# Altium schematic symbol library Разъемы импортные.SchLib: 38 symbols
Pins are listed as number, name and electrical type; pins without a type are passive.

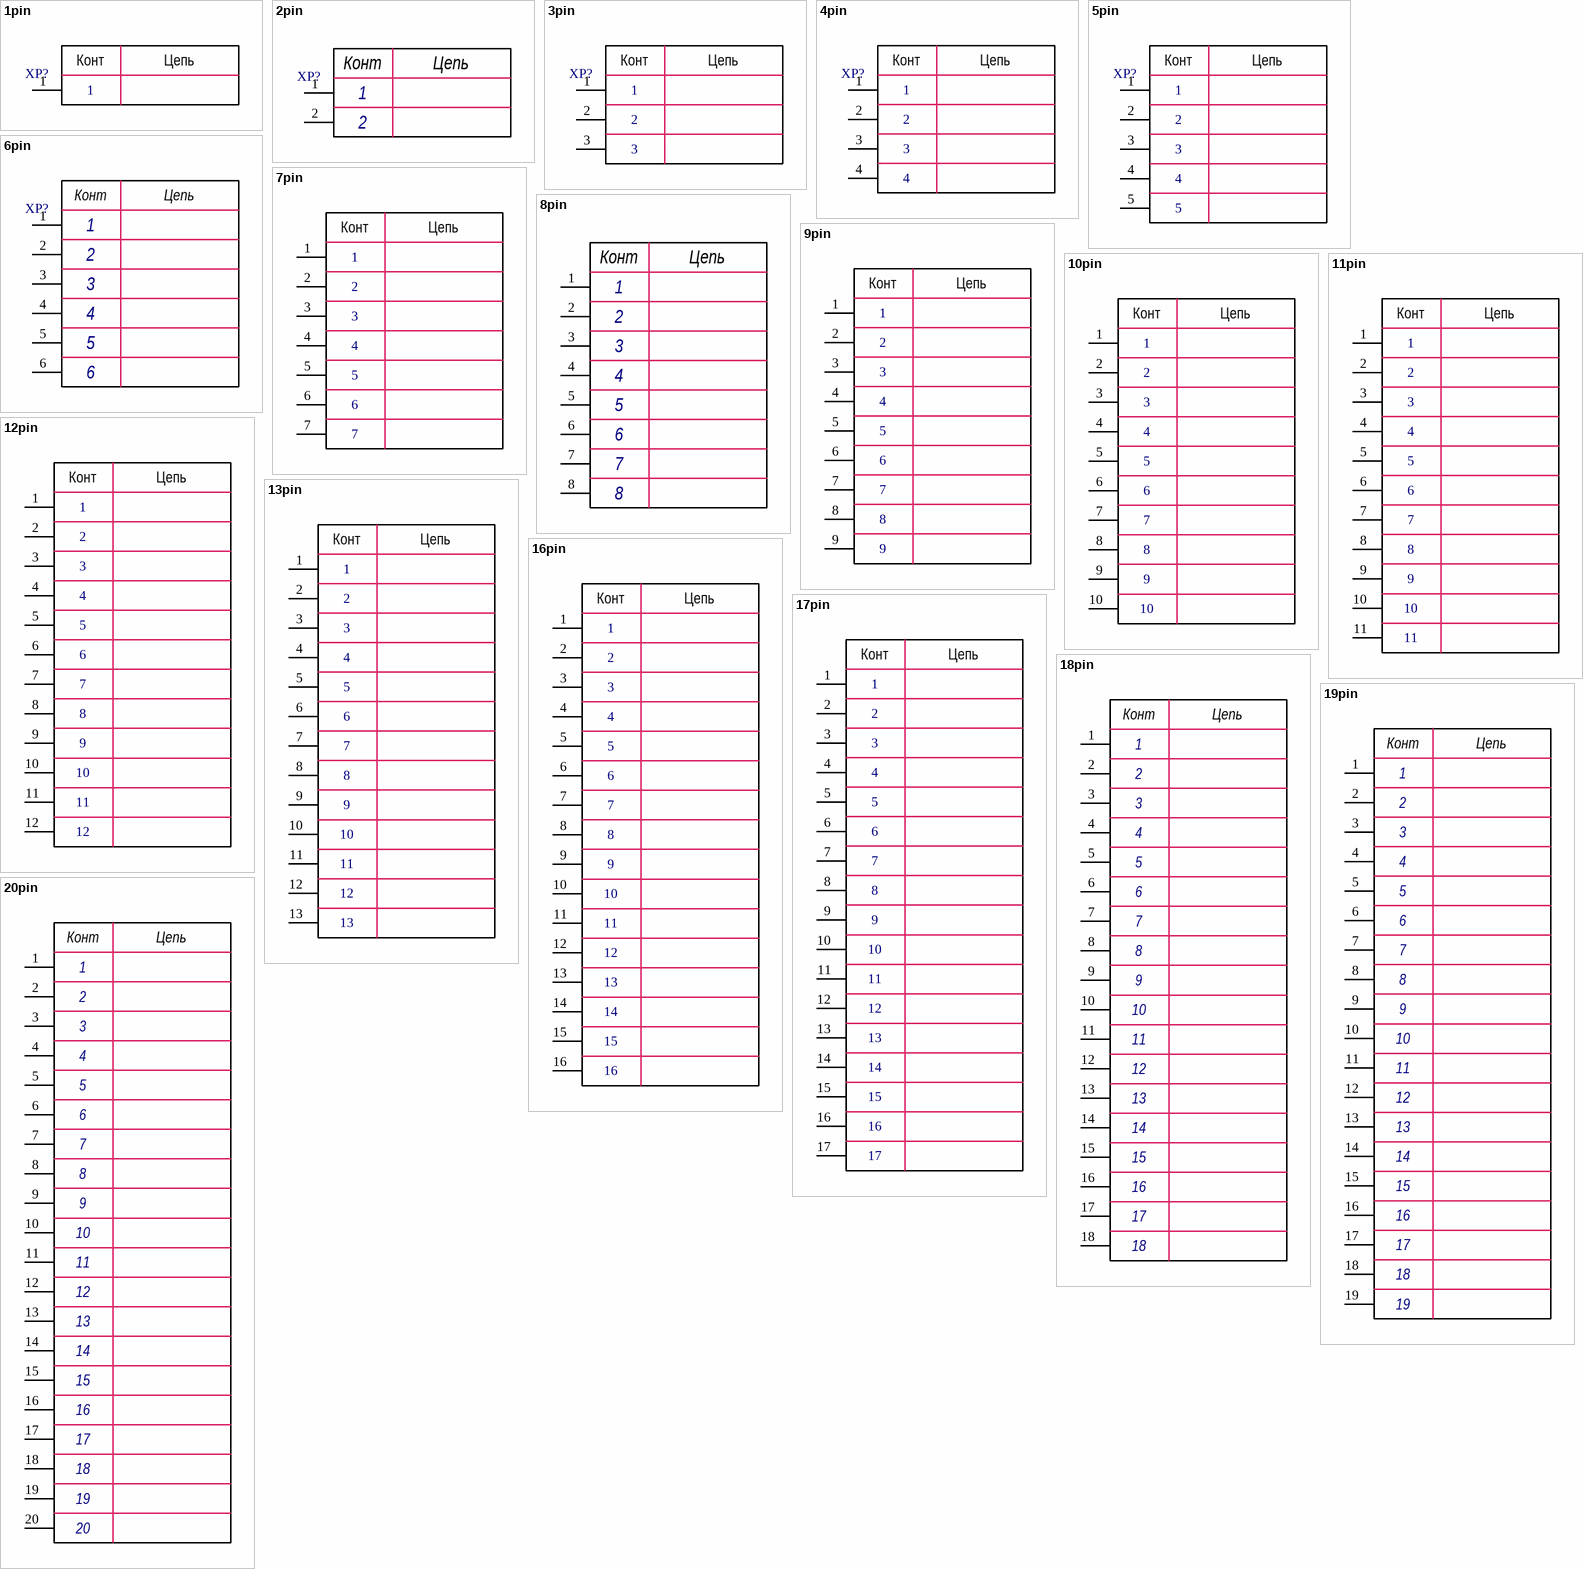
[diagram p0: symbols 1pin to 20pin]

## 1pin
designator XP?  (value not drawn)
Rem: *; Value: *; Tolerance: *; Power/Voltage: *; TKE: *; ManufacturerPartNumber: *; Manufacturer: *; Quantity: *; Примечание: *
pins: 1
text: Конт; Цепь

## 2pin
designator XP?  (value not drawn)
Rem: *; Value: *; Tolerance: *; Power/Voltage: *; TKE: *; ManufacturerPartNumber: *; Manufacturer: *; Quantity: *; Примечание: *
pins: 1, 2
text: Конт; Цепь

## 3pin
designator XP?  (value not drawn)
Rem: *; Value: *; Tolerance: *; Power/Voltage: *; TKE: *; ManufacturerPartNumber: *; Manufacturer: *; Quantity: *; Примечание: *
pins: 1, 2, 3
text: Конт; Цепь

## 4pin
designator XP?  (value not drawn)
Rem: *; Value: *; Tolerance: *; Power/Voltage: *; TKE: *; ManufacturerPartNumber: *; Manufacturer: *; Quantity: *; Примечание: *
pins: 1, 2, 3, 4
text: Конт; Цепь

## 5pin
designator XP?  (value not drawn)
Rem: *; Value: *; Tolerance: *; Power/Voltage: *; TKE: *; ManufacturerPartNumber: *; Manufacturer: *; Quantity: *; Примечание: *
pins: 1, 2, 3, 4, 5
text: Конт; Цепь

## 6pin
designator XP?  (value not drawn)
Rem: *; Value: *; Tolerance: *; Power/Voltage: *; TKE: *; ManufacturerPartNumber: *; Manufacturer: *; Quantity: *; Примечание: *
pins: 1, 2, 3, 4, 5, 6
text: Конт; Цепь

## 7pin
designator XP?  (value not drawn)
Rem: *; Value: *; Tolerance: *; Power/Voltage: *; TKE: *; ManufacturerPartNumber: *; Manufacturer: *; Quantity: *; Примечание: *
pins: 1, 2, 3, 4, 5, 6, 7
text: Конт; Цепь

## 8pin
designator XP?  (value not drawn)
Rem: *; Value: *; Tolerance: *; Power/Voltage: *; TKE: *; ManufacturerPartNumber: *; Manufacturer: *; Quantity: *; Примечание: *
pins: 1, 2, 3, 4, 5, 6, 7, 8
text: Конт; Цепь

## 9pin
designator XP?  (value not drawn)
Rem: *; Value: *; Tolerance: *; Power/Voltage: *; TKE: *; ManufacturerPartNumber: *; Manufacturer: *; Quantity: *; Примечание: *
pins: 1, 2, 3, 4, 5, 6, 7, 8, 9
text: Конт; Цепь

## 10pin
designator XP?  (value not drawn)
Rem: *; Value: *; Tolerance: *; Power/Voltage: *; TKE: *; ManufacturerPartNumber: *; Manufacturer: *; Quantity: *; Примечание: *
pins: 1, 2, 3, 4, 5, 6, 7, 8, 9, 10
text: Конт; Цепь

## 11pin
designator XP?  (value not drawn)
Rem: *; Value: *; Tolerance: *; Power/Voltage: *; TKE: *; ManufacturerPartNumber: *; Manufacturer: *; Quantity: *; Примечание: *
pins: 1, 2, 3, 4, 5, 6, 7, 8, 9, 10, 11
text: Конт; Цепь

## 12pin
designator XP?  (value not drawn)
Rem: *; Value: *; Tolerance: *; Power/Voltage: *; TKE: *; ManufacturerPartNumber: *; Manufacturer: *; Quantity: *; Примечание: *
pins: 1, 2, 3, 4, 5, 6, 7, 8, 9, 10, 11, 12
text: Конт; Цепь

## 13pin
designator XP?  (value not drawn)
Rem: *; Value: *; Tolerance: *; Power/Voltage: *; TKE: *; ManufacturerPartNumber: *; Manufacturer: *; Quantity: *; Примечание: *
pins: 1, 2, 3, 4, 5, 6, 7, 8, 9, 10, 11, 12, 13
text: Конт; Цепь

## 16pin
designator XP?  (value not drawn)
Rem: *; Value: *; Tolerance: *; Power/Voltage: *; TKE: *; ManufacturerPartNumber: *; Manufacturer: *; Quantity: *; Примечание: *
pins: 1, 2, 3, 4, 5, 6, 7, 8, 9, 10, 11, 12, 13, 14, 15, 16
text: Конт; Цепь

## 17pin
designator XP?  (value not drawn)
Rem: *; Value: *; Tolerance: *; Power/Voltage: *; TKE: *; ManufacturerPartNumber: *; Manufacturer: *; Quantity: *; Примечание: *
pins: 1, 2, 3, 4, 5, 6, 7, 8, 9, 10, 11, 12, 13, 14, 15, 16, 17
text: Конт; Цепь

## 18pin
designator XP?  (value not drawn)
Rem: *; Value: *; Tolerance: *; Power/Voltage: *; TKE: *; ManufacturerPartNumber: *; Manufacturer: *; Quantity: *; Примечание: *
pins: 1, 2, 3, 4, 5, 6, 7, 8, 9, 10, 11, 12, 13, 14, 15, 16, 17, 18
text: Конт; Цепь

## 19pin
designator XP?  (value not drawn)
Rem: *; Value: *; Tolerance: *; Power/Voltage: *; TKE: *; ManufacturerPartNumber: *; Manufacturer: *; Quantity: *; Примечание: *
pins: 1, 2, 3, 4, 5, 6, 7, 8, 9, 10, 11, 12, 13, 14, 15, 16, 17, 18, 19
text: Конт; Цепь

## 20pin
designator XP?  (value not drawn)
Rem: *; Value: *; Tolerance: *; Power/Voltage: *; TKE: *; ManufacturerPartNumber: *; Manufacturer: *; Quantity: *; Примечание: *
pins: 1, 2, 3, 4, 5, 6, 7, 8, 9, 10, 11, 12, 13, 14, 15, 16, 17, 18, 19, 20
text: Конт; Цепь

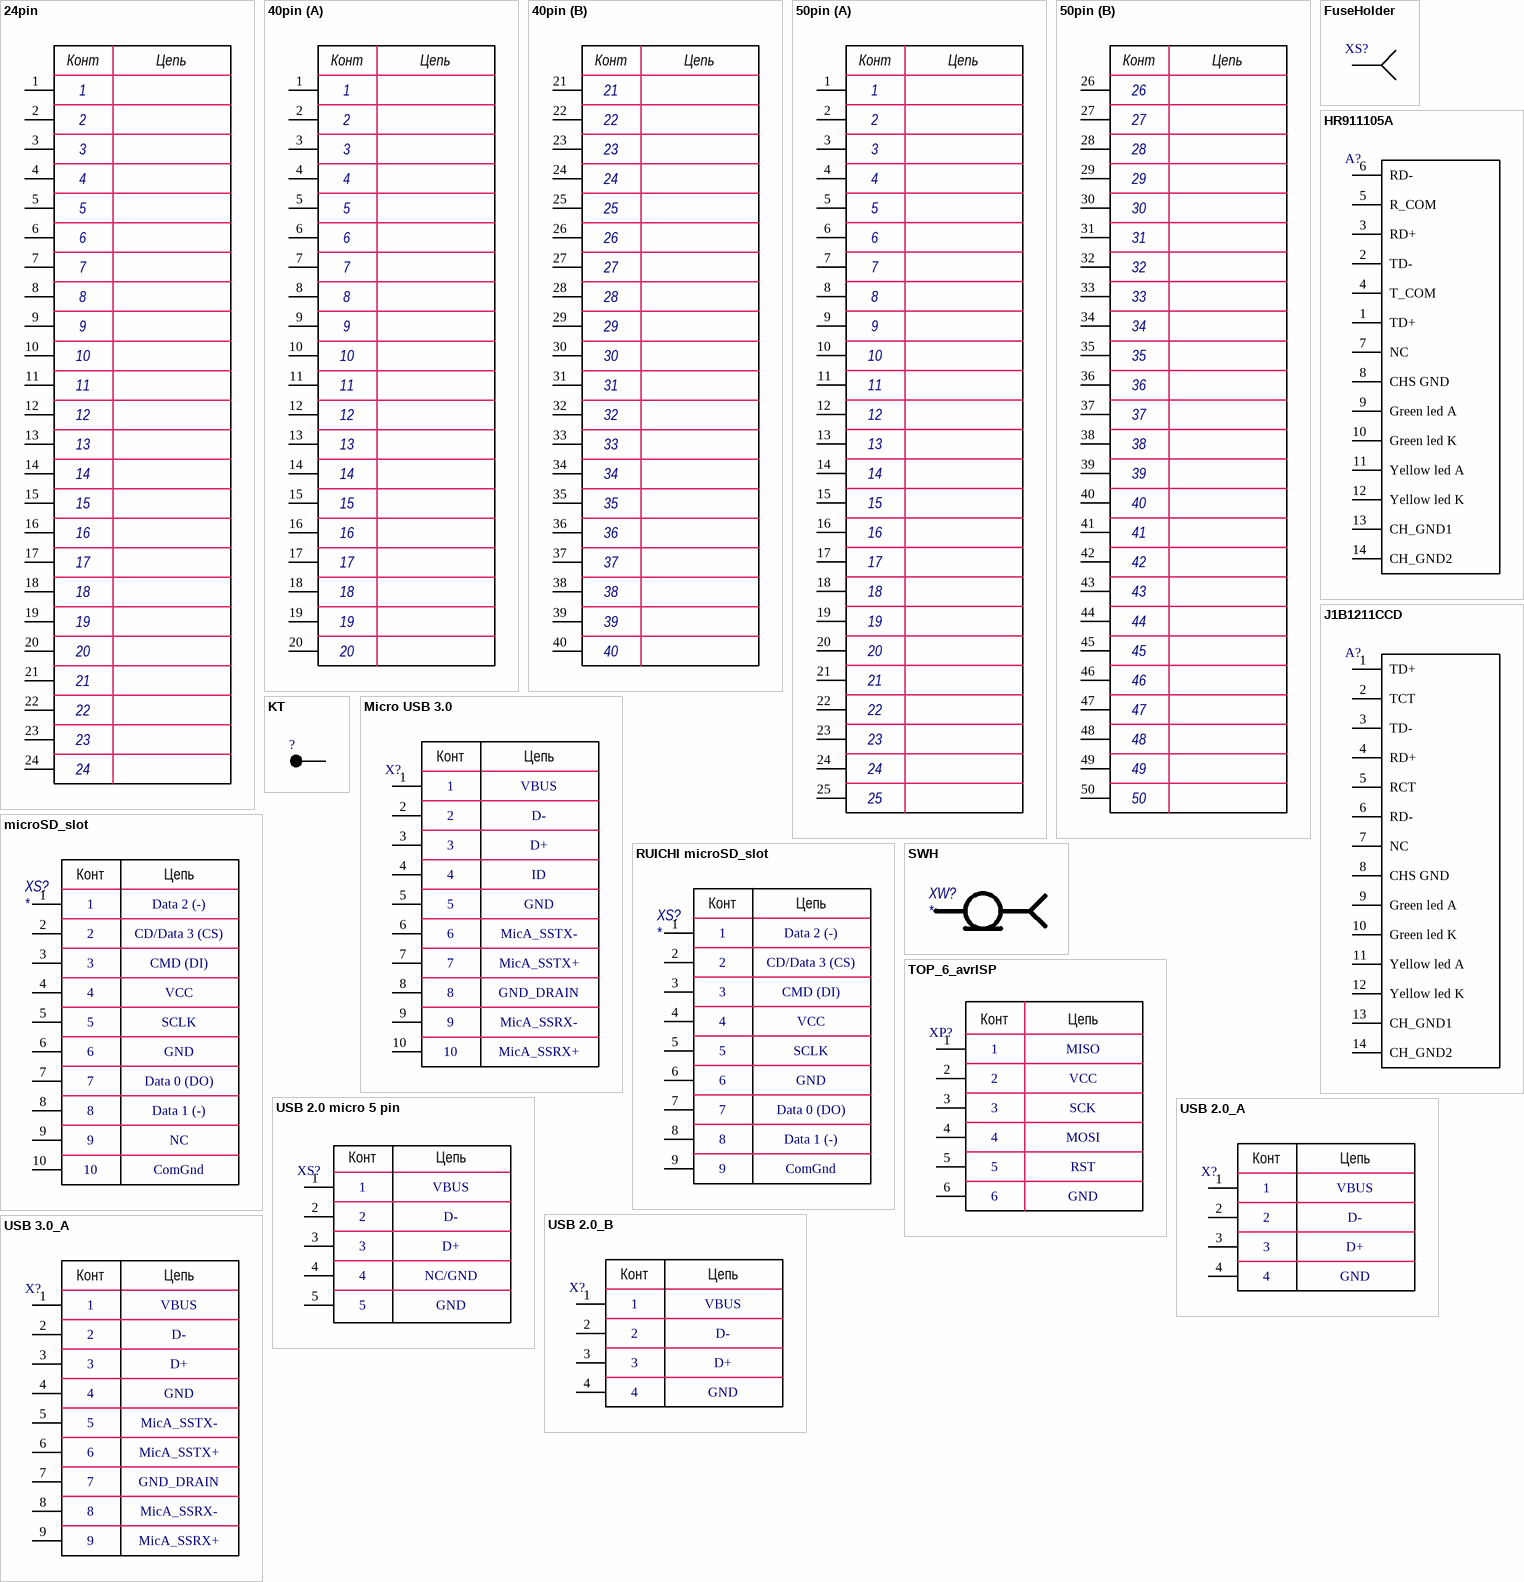
[diagram p1: symbols 24pin to USB 3.0_A]

## 24pin
designator XP?  (value not drawn)
Rem: *; Value: *; Tolerance: *; Power/Voltage: *; TKE: *; ManufacturerPartNumber: *; Manufacturer: *; Quantity: *; Примечание: *
pins: 1, 2, 3, 4, 5, 6, 7, 8, 9, 10, 11, 12, 13, 14, 15, 16, 17, 18, 19, 20, 21, 22, 23, 24
text: Конт; Цепь

## 40pin
designator XP?  (value not drawn)
Rem: *; Value: *; Tolerance: *; Power/Voltage: *; TKE: *; ManufacturerPartNumber: *; Manufacturer: *; Quantity: *; Примечание: *
part A pins: 1, 2, 3, 4, 5, 6, 7, 8, 9, 10, 11, 12, 13, 14, 15, 16, 17, 18, 19, 20
part B pins: 21, 22, 23, 24, 25, 26, 27, 28, 29, 30, 31, 32, 33, 34, 35, 36, 37, 38, 39, 40
part A text: Конт; Цепь
part B text: Конт; Цепь

## 50pin
designator XP?  (value not drawn)
Rem: *; Value: *; Tolerance: *; Power/Voltage: *; TKE: *; ManufacturerPartNumber: *; Manufacturer: *; Quantity: *; Примечание: *
part A pins: 1, 2, 3, 4, 5, 6, 7, 8, 9, 10, 11, 12, 13, 14, 15, 16, 17, 18, 19, 20, 21, 22, 23, 24, 25
part B pins: 26, 27, 28, 29, 30, 31, 32, 33, 34, 35, 36, 37, 38, 39, 40, 41, 42, 43, 44, 45, 46, 47, 48, 49, 50
part A text: Конт; Цепь
part B text: Конт; Цепь

## FuseHolder
designator XS?  (value not drawn)
Rem: *; Value: *; Tolerance: *; Power/Voltage: *; TKE: *; ManufacturerPartNumber: *; Manufacturer: *; Quantity: *; Примечание: *
pins: 1

## HR911105A
designator A?, comment ***  (value not drawn)
Rem: *; Package: *; Value: *; Tolerance: *; Power/Voltage: *; TKE: *; ManufacturerPartNumber: *; Manufacturer: *; Quantity: *; Примечание: *
pins: 1 TD+, 2 TD-, 3 RD+, 4 T_COM, 5 R_COM, 6 RD-, 7 NC, 8 CHS GND, 9 Green led A, 10 Green led K, 11 Yellow led A, 12 Yellow led K, 13 CH_GND1, 14 CH_GND2

## J1B1211CCD
designator A?, comment ***  (value not drawn)
Rem: *; Package: *; Value: *; Tolerance: *; Power/Voltage: *; TKE: *; ManufacturerPartNumber: *; Manufacturer: *; Quantity: *; Примечание: *
pins: 1 TD+, 2 TCT, 3 TD-, 4 RD+, 5 RCT, 6 RD-, 7 NC, 8 CHS GND, 9 Green led A, 10 Green led K, 11 Yellow led A, 12 Yellow led K, 13 CH_GND1, 14 CH_GND2

## KT
designator ?  (value not drawn)
pins: 1 "KT"

## Micro USB 3.0
designator X?, comment ***  (value not drawn)
Rem: *; Package: *; Value: *; Tolerance: *; Power/Voltage: *; TKE: *; ManufacturerPartNumber: *; Manufacturer: *; Quantity: *; Примечание: *; URL: *; ComponentType: *; VendorCode: *
pins: 1 VBUS, 2 D-, 3 D+, 4 ID, 5 GND, 6 MicA_SSTX-, 7 MicA_SSTX+, 8 GND_DRAIN, 9 MicA_SSRX-, 10 MicA_SSRX+
text: Конт; Цепь

## microSD_slot
designator XS?
pins: 1 VBUS, 2 D-, 3 D+, 4 ID, 5 GND, 6 MicA_SSTX-, 7 MicA_SSTX+, 8 GND_DRAIN, 9 MicA_SSRX-, 10 MicA_SSRX+
text: Конт; Цепь; Data 2 (-); CD/Data 3 (CS); CMD (DI); VCC; SCLK; Data 0 (DO); Data 1 (-); NC; ComGnd

## RUICHI microSD_slot
designator XS?
pins: 1 VBUS, 2 D-, 3 D+, 4 ID, 5 GND, 6 MicA_SSTX-, 7 MicA_SSTX+, 8 GND_DRAIN, 9 MicA_SSRX-
text: Конт; Цепь; Data 2 (-); CD/Data 3 (CS); CMD (DI); VCC; SCLK; Data 0 (DO); Data 1 (-); ComGnd

## SWH
designator XW?
pins: 1, 2

## TOP_6_avrISP
designator XP?  (value not drawn)
pins: 1, 2, 3, 4, 5, 6
text: Конт; Цепь; MISO; VCC; SCK; MOSI; RST; GND

## USB 2.0 micro 5 pin
designator XS?, comment ***  (value not drawn)
Rem: *; Package: *; Value: *; Tolerance: *; Power/Voltage: *; TKE: *; ManufacturerPartNumber: *; Manufacturer: *; Quantity: *; Примечание: *; URL: *; ComponentType: *; VendorCode: *
pins: 1 VBUS, 2 D-, 3 D+, 4 ID, 5 GND
text: Конт; Цепь; NC/GND

## USB 2.0_A
designator X?, comment ***  (value not drawn)
Rem: *; Package: *; Value: *; Tolerance: *; Power/Voltage: *; TKE: *; ManufacturerPartNumber: *; Manufacturer: *; Quantity: *; Примечание: *; URL: *; ComponentType: *; VendorCode: *
pins: 1 VBUS, 2 D-, 3 D+, 4 ID
text: Конт; Цепь; GND

## USB 2.0_B
designator X?, comment ***  (value not drawn)
Rem: *; Package: *; Value: *; Tolerance: *; Power/Voltage: *; TKE: *; ManufacturerPartNumber: *; Manufacturer: *; Quantity: *; Примечание: *; URL: *; ComponentType: *; VendorCode: *
pins: 1 VBUS, 2 D-, 3 D+, 4 ID
text: Конт; Цепь; GND

## USB 3.0_A
designator X?, comment ***  (value not drawn)
Rem: *; Package: *; Value: *; Tolerance: *; Power/Voltage: *; TKE: *; ManufacturerPartNumber: *; Manufacturer: *; Quantity: *; Примечание: *; URL: *; ComponentType: *; VendorCode: *
pins: 1 VBUS, 2 D-, 3 D+, 4 ID, 5 GND, 6 MicA_SSTX-, 7 MicA_SSTX+, 8 GND_DRAIN, 9 MicA_SSRX-
text: Конт; Цепь; MicA_SSRX+

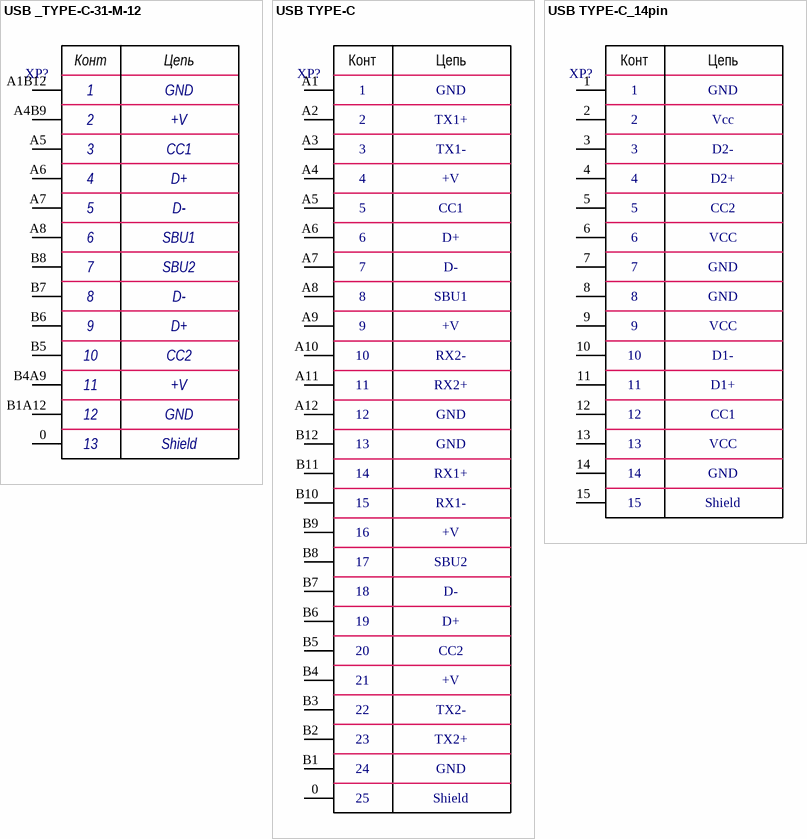
[diagram p2: symbols USB _TYPE-C-31-M-12 to USB TYPE-C_14pin]

## USB _TYPE-C-31-M-12
designator XP?, comment ***  (value not drawn)
Rem: *; Package: *; Value: *; Tolerance: *; Power/Voltage: *; TKE: *; ManufacturerPartNumber: *; Manufacturer: *; Quantity: *; Примечание: *; URL: *; ComponentType: *; VendorCode: *
pins: 0 Shield, A1B12 GND, A4B9 +V, A5 CC1, A6 D+, A7 D-, A8 SBU1, B1A12 GND, B4A9 +V, B5 CC2, B6 D+, B7 D-, B8 SBU2
text: Конт; Цепь; 1; 2; 3; 4; 5; 6; 7; 8; 9; 10; 11; 12; 13

## USB TYPE-C
designator XP?, comment ***  (value not drawn)
Rem: *; Package: *; Value: *; Tolerance: *; Power/Voltage: *; TKE: *; ManufacturerPartNumber: *; Manufacturer: *; Quantity: *; Примечание: *; URL: *; ComponentType: *; VendorCode: *
pins: 0 Shield, A1 GND, A2 TX1+, A3 TX1-, A4 +V, A5 CC1, A6 D+, A7 D-, A8 SBU1, A9 +V, A10 RX2-, A11 RX2+, A12 GND, B1 GND, B2 TX2+, B3 TX2-, B4 +V, B5 CC2, B6 D+, B7 D-, B8 SBU2, B9 +V, B10 RX1-, B11 RX1+, B12 GND
text: Конт; Цепь; 1; 2; 3; 4; 5; 6; 7; 8; 9; 10; 11; 12; 13; 14; 15; 16; 17; 18; 19; 20; 21; 22; 23; 24; 25

## USB TYPE-C_14pin
designator XP?, comment ***  (value not drawn)
Rem: *; Package: *; Value: *; Tolerance: *; Power/Voltage: *; TKE: *; ManufacturerPartNumber: *; Manufacturer: *; Quantity: *; Примечание: *; URL: *; ComponentType: *; VendorCode: *
pins: 1 GND, 2 GND, 3 GND, 4 GND, 5 GND, 6 GND, 7 GND, 8 GND, 9 GND, 10 GND, 11 GND, 12 GND, 13 GND, 14 GND, 15 GND
text: Конт; Цепь; Vcc; D2-; D2+; CC2; VCC; D1-; D1+; CC1; Shield

## РЫБА_1
designator X?, comment ***  (value not drawn)
Rem: *; Package: *; Value: *; Tolerance: *; Power/Voltage: *; TKE: *; ManufacturerPartNumber: *; Manufacturer: *; Quantity: *; Примечание: *; URL: *; ComponentType: *; VendorCode: *